# Altium footprint library 22057035.PcbLib: 1 footprints
Each footprint in its own frame and in the unit in brackets; x right, y up, seen from the top. Pads: shape width x height; smd on the part's side, far side on the other; paste and mask are expansions set on the pad; w line width, h text height; cw(c..) or ccw(c..) is an arc to the next point about the centre after c.
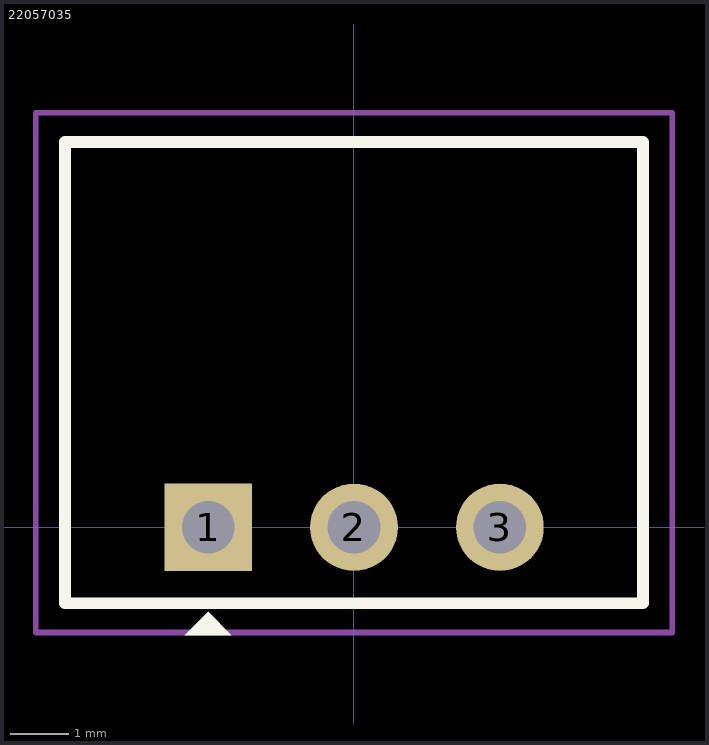
[diagram p0: the footprint, top view; thin cyan lines are the x and y axes]

## 22057035 [mm]
pads (3):
  rect 1.5x1.5 hole 0.9: 1(-2.5,0)
  round 1.5 hole 0.9: 2(0,0) 3(2.5,0)
Top Overlay:
  region: -2.1,-1.85 -2.9,-1.85 -2.5,-1.45
  lines w0.2: -4.95,-1.3 -4.95,6.6 4.95,6.6 4.95,-1.3 -4.95,-1.3
Top Courtyard:
  lines w0.1: -5.45,-1.8 -5.45,7.1 5.45,7.1 5.45,-1.8 -5.45,-1.8
3D body "22-05-7035.stp": height 4.95, standoff -3.45, extent -4.95,-1.3 4.95,6.6